# EAGLE library part ARDUINO-PRO-MINI* (library avr-4)
Atmega328/168 based microcontroller development board
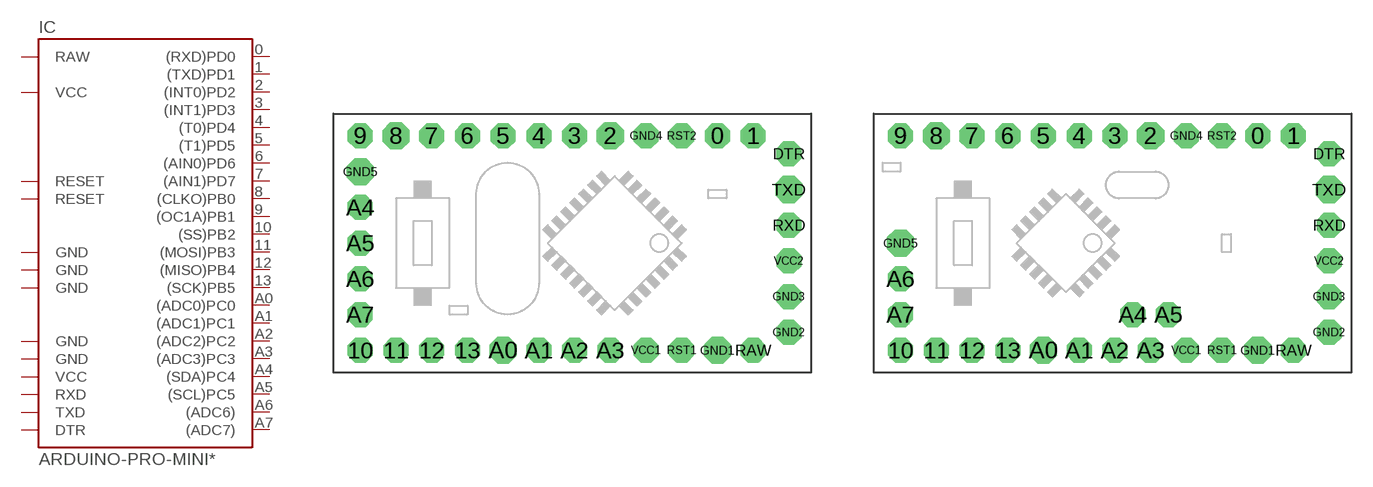
[diagram p57: symbol with the pads of ARDUINO-PRO-MINI; footprints ARDUINO-PRO-MINI, ARDUINO-PRO-MINI-B]

Designator prefix IC

## ARDUINO-PRO-MINI-16M-5V, ARDUINO-PRO-MINI-8M-3V3  [ARDUINO-PRO-MINI]
0  (RXD)PD0
1  (TXD)PD1
2  (INT0)PD2
3  (INT1)PD3
4  (T0)PD4
5  (T1)PD5
6  (AIN0)PD6
7  (AIN1)PD7
8  (CLKO)PB0
9  (OC1A)PB1
10  (SS)PB2
11  (MOSI)PB3
12  (MISO)PB4
13  (SCK)PB5
A0  (ADC0)PC0
A1  (ADC1)PC1
A2  (ADC2)PC2
A3  (ADC3)PC3
A4  (SDA)PC4
A5  (SCL)PC5
A6  (ADC6)
A7  (ADC7)
DTR  DTR
GND1  GND  pwr
GND2  GND  pwr
GND3  GND  pwr
GND4  GND  pwr
GND5  GND  pwr
RAW  RAW  pwr
RST1  RESET
RST2  RESET
RXD  RXD
TXD  TXD
VCC1  VCC  pwr
VCC2  VCC  pwr

## ARDUINO-PRO-MINI-16M-5V-B, ARDUINO-PRO-MINI-8M-3V3-B  [ARDUINO-PRO-MINI-B]
Pads as for ARDUINO-PRO-MINI

## Footprint ARDUINO-PRO-MINI (pad centres in mm)
Arduino Pro Mini 8M/16M board 3V3/5V
drill 1.016 pad 1.778 octagon: 0 10.16,7.62; 1 12.7,7.62; 3 0,7.62; 4 -2.54,7.62; 5 -5.08,7.62; 6 -7.62,7.62; 7 -10.16,7.62; 9 -15.24,7.62; 10 -15.24,-7.62; 11 -12.7,-7.62; 12 -10.16,-7.62; 13 -7.62,-7.62; A1 -2.54,-7.62; A2 0,-7.62; A3 2.54,-7.62; A4 -15.24,2.54; A5 -15.24,0; A6 -15.24,-2.54; A7 -15.24,-5.08; DTR 15.24,6.35; GND2 15.24,-6.35; GND3 15.24,-3.81; GND4 5.08,7.62; RAW 12.7,-7.62; RST1 7.62,-7.62; RST2 7.62,7.62; RXD 15.24,1.27; VCC1 5.08,-7.62; VCC2 15.24,-1.27
drill 1.016 pad 1.93 octagon: 2 2.54,7.62; 8 -12.7,7.62; A0 -5.08,-7.62; GND1 10.16,-7.62; GND5 -15.24,5.08; TXD 15.24,3.81

## Footprint ARDUINO-PRO-MINI-B (pad centres in mm)
drill 1.016 pad 1.778 octagon: 0 10.16,7.62; 1 12.7,7.62; 3 0,7.62; 4 -2.54,7.62; 5 -5.08,7.62; 6 -7.62,7.62; 7 -10.16,7.62; 9 -15.24,7.62; 10 -15.24,-7.62; 11 -12.7,-7.62; 12 -10.16,-7.62; 13 -7.62,-7.62; A1 -2.54,-7.62; A2 0,-7.62; A3 2.54,-7.62; A4 1.27,-5.08; A5 3.81,-5.08; A6 -15.24,-2.54; A7 -15.24,-5.08; DTR 15.24,6.35; GND2 15.24,-6.35; GND3 15.24,-3.81; GND4 5.08,7.62; RAW 12.7,-7.62; RST1 7.62,-7.62; RST2 7.62,7.62; RXD 15.24,1.27; VCC1 5.08,-7.62; VCC2 15.24,-1.27
drill 1.016 pad 1.93 octagon: 2 2.54,7.62; 8 -12.7,7.62; A0 -5.08,-7.62; GND1 10.16,-7.62; GND5 -15.24,0; TXD 15.24,3.81